# Altium schematic symbol library CONN_4PIN_M.SchLib: 1 symbol
Pins are listed as number, name and electrical type; pins without a type are passive.

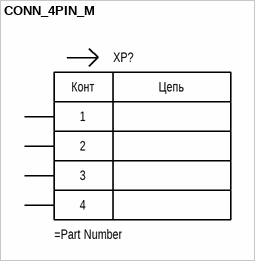
[diagram p0: symbol CONN_4PIN_M]

## CONN_4PIN_M
designator XP?
pins: 1, 2, 3, 4
text: Конт; Цепь